# Altium integrated library Maxim Sensors.IntLib: 1171 symbols (part 16 of 61)
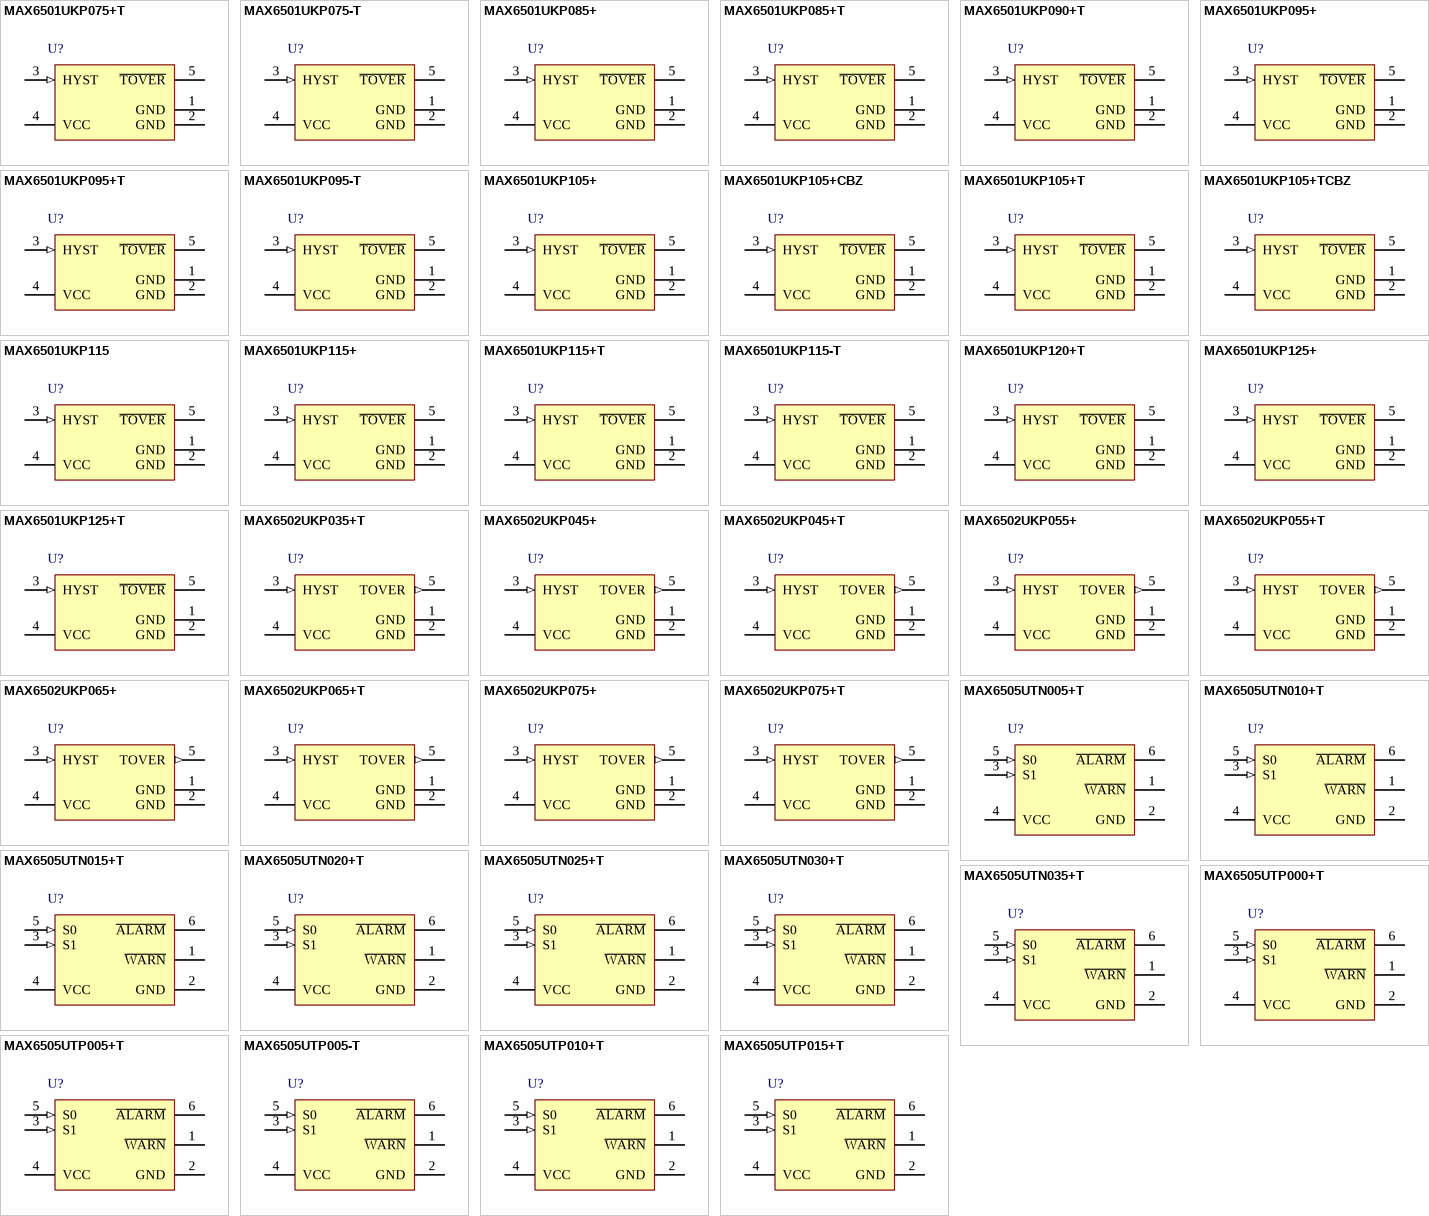
[diagram p48: symbols MAX6501UKP075+T to MAX6505UTP015+T]

## MAX6501UKP090+T
designator U?
Low-Cost, 2.7 to 5.5 V, Micropower Open-Drain Temperature Switch with Hot Trip Threshold, -55 to 125 degC, 5-Pin SOT23 (U5+2), Pb-Free, Tape and Reel; Generic Part Number: MAX6501; PartNumber: MAX6501UKP090+T; Functions: Temperature Switch/Temperature Comparator; Interface: Logic; DatasheetVersion: Rev. 6; PackageVersion: Rev. G, 04/2011; PackageReference: U5+2; PackageDescription: 5-Pin Small-Outline Transistor Package, Body 1.625 x 2.9 mm, Pitch 0.95 mm; Supplier 1: Digi-Key; Supplier Part Number 1: MAX6501UKP090+T-ND; Supplier 2: Mouser; Supplier Part Number 2: 700-MAX6501UKP090T; Packing: Tape and Reel; Mounting Technology: Surface Mount; Code_JEDEC: MO178; ComponentLink1Description: Manufacturer URL; ComponentLink1URL: http://www.maximintegrated.com/; ComponentLink2Description: Datasheet; ComponentLink2URL: http://datasheets.maximintegrated.com/en/ds/MAX6501; ComponentLink3Description: Package Specification; ComponentLink3URL: http://pdfserv.maximintegrated.com/package_dwgs/21-0057.PDF
footprint MAXM-U5+2_N (SOT23, 5-Leads, Body 2.9x1.625mm, Pitch 0.95mm, IPC Medium Density)
footprint MAXM-U5+2_L (SOT23, 5-Leads, Body 2.9x1.625mm, Pitch 0.95mm, IPC High Density)
footprint MAXM-U5+2_M (SOT23, 5-Leads, Body 2.9x1.625mm, Pitch 0.95mm, IPC Low Density)
pins: 1 GND (power) "Ground. Not internally connected. Connect both ground pins together close to the chip. Pin 2 provides the lowest thermal resistance to the die.", 2 GND (power) "Ground. Not internally connected. Connect both ground pins together close to the chip. Pin 2 provides the lowest thermal resistance to the die.", 3 HYST (in) "Hysteresis Input. Connect HYST to GND for 2degreesC hysteresis, or connect to VCC for 10 degreesC hysteresis.", 4 VCC (power) "Supply Input (+2.7V to +5.5V)", 5 ~{TOVER} (oc) "Open-Drain, Active-Low Output. T\O\V\E\R\ goes low when the die temperature exceeds the factory-programmed temperature threshold. Connect to a 100k ohm pullup resistor. May be pulled up to a voltage higher than VCC."

## MAX6501UKP095+
designator U?
Low-Cost, 2.7 to 5.5 V, Micropower Open-Drain Temperature Switch with Hot Trip Threshold, -55 to 125 degC, 5-Pin SOT23 (U5+2), Pb-Free; Generic Part Number: MAX6501; PartNumber: MAX6501UKP095+; Functions: Temperature Switch/Temperature Comparator; Interface: Logic; DatasheetVersion: Rev. 6; PackageVersion: Rev. G, 04/2011; PackageReference: U5+2; PackageDescription: 5-Pin Small-Outline Transistor Package, Body 1.625 x 2.9 mm, Pitch 0.95 mm; Supplier 1: Mouser; Supplier Part Number 1: N/A; Mounting Technology: Surface Mount; Code_JEDEC: MO178; ComponentLink1Description: Manufacturer URL; ComponentLink1URL: http://www.maximintegrated.com/; ComponentLink2Description: Datasheet; ComponentLink2URL: http://datasheets.maximintegrated.com/en/ds/MAX6501; ComponentLink3Description: Package Specification; ComponentLink3URL: http://pdfserv.maximintegrated.com/package_dwgs/21-0057.PDF
footprint MAXM-U5+2_N (SOT23, 5-Leads, Body 2.9x1.625mm, Pitch 0.95mm, IPC Medium Density)
footprint MAXM-U5+2_L (SOT23, 5-Leads, Body 2.9x1.625mm, Pitch 0.95mm, IPC High Density)
footprint MAXM-U5+2_M (SOT23, 5-Leads, Body 2.9x1.625mm, Pitch 0.95mm, IPC Low Density)
pins: 1 GND (power) "Ground. Not internally connected. Connect both ground pins together close to the chip. Pin 2 provides the lowest thermal resistance to the die.", 2 GND (power) "Ground. Not internally connected. Connect both ground pins together close to the chip. Pin 2 provides the lowest thermal resistance to the die.", 3 HYST (in) "Hysteresis Input. Connect HYST to GND for 2degreesC hysteresis, or connect to VCC for 10 degreesC hysteresis.", 4 VCC (power) "Supply Input (+2.7V to +5.5V)", 5 ~{TOVER} (oc) "Open-Drain, Active-Low Output. T\O\V\E\R\ goes low when the die temperature exceeds the factory-programmed temperature threshold. Connect to a 100k ohm pullup resistor. May be pulled up to a voltage higher than VCC."

## MAX6501UKP095+T
designator U?
Low-Cost, 2.7 to 5.5 V, Micropower Open-Drain Temperature Switch with Hot Trip Threshold, -55 to 125 degC, 5-Pin SOT23 (U5+2), Pb-Free, Tape and Reel; Generic Part Number: MAX6501; PartNumber: MAX6501UKP095+T; Functions: Temperature Switch/Temperature Comparator; Interface: Logic; DatasheetVersion: Rev. 6; PackageVersion: Rev. G, 04/2011; PackageReference: U5+2; PackageDescription: 5-Pin Small-Outline Transistor Package, Body 1.625 x 2.9 mm, Pitch 0.95 mm; Supplier 1: Digi-Key; Supplier Part Number 1: MAX6501UKP095+TTR-ND; Supplier 2: Digi-Key; Supplier Part Number 2: MAX6501UKP095+TCT-ND; Supplier 3: Digi-Key; Supplier Part Number 3: MAX6501UKP095+TDKR-ND; Supplier 4: Mouser; Supplier Part Number 4: 700-MAX6501UKP095T; Packing: Tape and Reel; Mounting Technology: Surface Mount; Code_JEDEC: MO178; ComponentLink1Description: Manufacturer URL; ComponentLink1URL: http://www.maximintegrated.com/; ComponentLink2Description: Datasheet; ComponentLink2URL: http://datasheets.maximintegrated.com/en/ds/MAX6501; ComponentLink3Description: Package Specification; ComponentLink3URL: http://pdfserv.maximintegrated.com/package_dwgs/21-0057.PDF
footprint MAXM-U5+2_N (SOT23, 5-Leads, Body 2.9x1.625mm, Pitch 0.95mm, IPC Medium Density)
footprint MAXM-U5+2_L (SOT23, 5-Leads, Body 2.9x1.625mm, Pitch 0.95mm, IPC High Density)
footprint MAXM-U5+2_M (SOT23, 5-Leads, Body 2.9x1.625mm, Pitch 0.95mm, IPC Low Density)
pins: 1 GND (power) "Ground. Not internally connected. Connect both ground pins together close to the chip. Pin 2 provides the lowest thermal resistance to the die.", 2 GND (power) "Ground. Not internally connected. Connect both ground pins together close to the chip. Pin 2 provides the lowest thermal resistance to the die.", 3 HYST (in) "Hysteresis Input. Connect HYST to GND for 2degreesC hysteresis, or connect to VCC for 10 degreesC hysteresis.", 4 VCC (power) "Supply Input (+2.7V to +5.5V)", 5 ~{TOVER} (oc) "Open-Drain, Active-Low Output. T\O\V\E\R\ goes low when the die temperature exceeds the factory-programmed temperature threshold. Connect to a 100k ohm pullup resistor. May be pulled up to a voltage higher than VCC."

## MAX6501UKP095-T
designator U?
Low-Cost, 2.7 to 5.5 V, Micropower Open-Drain Temperature Switch with Hot Trip Threshold, -55 to 125 degC, 5-Pin SOT23 (U5-2), Tape and Reel; Generic Part Number: MAX6501; PartNumber: MAX6501UKP095-T; Functions: Temperature Switch/Temperature Comparator; Interface: Logic; DatasheetVersion: Rev. 6; PackageVersion: Rev. G, 04/2011; PackageReference: U5-2; PackageDescription: 5-Pin Small-Outline Transistor Package, Body 1.625 x 2.9 mm, Pitch 0.95 mm; Supplier 1: Mouser; Supplier Part Number 1: N/A; Packing: Tape and Reel; Mounting Technology: Surface Mount; Code_JEDEC: MO-178; ComponentLink1Description: Manufacturer URL; ComponentLink1URL: http://www.maximintegrated.com/; ComponentLink2Description: Datasheet; ComponentLink2URL: http://datasheets.maximintegrated.com/en/ds/MAX6501; ComponentLink3Description: Package Specification; ComponentLink3URL: http://pdfserv.maximintegrated.com/package_dwgs/21-0057.PDF
footprint MAXM-U5-2_N (SOT23, 5-Leads, Body 2.9x1.625mm, Pitch 0.95mm, IPC Medium Density)
footprint MAXM-U5-2_L (SOT23, 5-Leads, Body 2.9x1.625mm, Pitch 0.95mm, IPC High Density)
footprint MAXM-U5-2_M (SOT23, 5-Leads, Body 2.9x1.625mm, Pitch 0.95mm, IPC Low Density)
pins: 1 GND (power) "Ground. Not internally connected. Connect both ground pins together close to the chip. Pin 2 provides the lowest thermal resistance to the die.", 2 GND (power) "Ground. Not internally connected. Connect both ground pins together close to the chip. Pin 2 provides the lowest thermal resistance to the die.", 3 HYST (in) "Hysteresis Input. Connect HYST to GND for 2degreesC hysteresis, or connect to VCC for 10 degreesC hysteresis.", 4 VCC (power) "Supply Input (+2.7V to +5.5V)", 5 ~{TOVER} (oc) "Open-Drain, Active-Low Output. T\O\V\E\R\ goes low when the die temperature exceeds the factory-programmed temperature threshold. Connect to a 100k ohm pullup resistor. May be pulled up to a voltage higher than VCC."

## MAX6501UKP105+
designator U?
Low-Cost, 2.7 to 5.5 V, Micropower Open-Drain Temperature Switch with Hot Trip Threshold, -55 to 125 degC, 5-Pin SOT23 (U5+2), Pb-Free; Generic Part Number: MAX6501; PartNumber: MAX6501UKP105+; Functions: Temperature Switch/Temperature Comparator; Interface: Logic; DatasheetVersion: Rev. 6; PackageVersion: Rev. G, 04/2011; PackageReference: U5+2; PackageDescription: 5-Pin Small-Outline Transistor Package, Body 1.625 x 2.9 mm, Pitch 0.95 mm; Supplier 1: Mouser; Supplier Part Number 1: N/A; Mounting Technology: Surface Mount; Code_JEDEC: MO178; ComponentLink1Description: Manufacturer URL; ComponentLink1URL: http://www.maximintegrated.com/; ComponentLink2Description: Datasheet; ComponentLink2URL: http://datasheets.maximintegrated.com/en/ds/MAX6501; ComponentLink3Description: Package Specification; ComponentLink3URL: http://pdfserv.maximintegrated.com/package_dwgs/21-0057.PDF
footprint MAXM-U5+2_N (SOT23, 5-Leads, Body 2.9x1.625mm, Pitch 0.95mm, IPC Medium Density)
footprint MAXM-U5+2_L (SOT23, 5-Leads, Body 2.9x1.625mm, Pitch 0.95mm, IPC High Density)
footprint MAXM-U5+2_M (SOT23, 5-Leads, Body 2.9x1.625mm, Pitch 0.95mm, IPC Low Density)
pins: 1 GND (power) "Ground. Not internally connected. Connect both ground pins together close to the chip. Pin 2 provides the lowest thermal resistance to the die.", 2 GND (power) "Ground. Not internally connected. Connect both ground pins together close to the chip. Pin 2 provides the lowest thermal resistance to the die.", 3 HYST (in) "Hysteresis Input. Connect HYST to GND for 2degreesC hysteresis, or connect to VCC for 10 degreesC hysteresis.", 4 VCC (power) "Supply Input (+2.7V to +5.5V)", 5 ~{TOVER} (oc) "Open-Drain, Active-Low Output. T\O\V\E\R\ goes low when the die temperature exceeds the factory-programmed temperature threshold. Connect to a 100k ohm pullup resistor. May be pulled up to a voltage higher than VCC."

## MAX6501UKP105+CBZ
designator U?
Low-Cost, 2.7 to 5.5 V, Micropower Open-Drain Temperature Switch with Hot Trip Threshold, -55 to 125 degC, 5-Pin SOT23 (U5+2), Pb-Free; Generic Part Number: MAX6501; PartNumber: MAX6501UKP105+CBZ; Functions: Temperature Switch/Temperature Comparator; Interface: Logic; DatasheetVersion: Rev. 6; PackageVersion: Rev. G, 04/2011; PackageReference: U5+2; PackageDescription: 5-Pin Small-Outline Transistor Package, Body 1.625 x 2.9 mm, Pitch 0.95 mm; Supplier 1: Mouser; Supplier Part Number 1: N/A; Mounting Technology: Surface Mount; Code_JEDEC: MO178; ComponentLink1Description: Manufacturer URL; ComponentLink1URL: http://www.maximintegrated.com/; ComponentLink2Description: Datasheet; ComponentLink2URL: http://datasheets.maximintegrated.com/en/ds/MAX6501; ComponentLink3Description: Package Specification; ComponentLink3URL: http://pdfserv.maximintegrated.com/package_dwgs/21-0057.PDF
footprint MAXM-U5+2_N (SOT23, 5-Leads, Body 2.9x1.625mm, Pitch 0.95mm, IPC Medium Density)
footprint MAXM-U5+2_L (SOT23, 5-Leads, Body 2.9x1.625mm, Pitch 0.95mm, IPC High Density)
footprint MAXM-U5+2_M (SOT23, 5-Leads, Body 2.9x1.625mm, Pitch 0.95mm, IPC Low Density)
pins: 1 GND (power) "Ground. Not internally connected. Connect both ground pins together close to the chip. Pin 2 provides the lowest thermal resistance to the die.", 2 GND (power) "Ground. Not internally connected. Connect both ground pins together close to the chip. Pin 2 provides the lowest thermal resistance to the die.", 3 HYST (in) "Hysteresis Input. Connect HYST to GND for 2degreesC hysteresis, or connect to VCC for 10 degreesC hysteresis.", 4 VCC (power) "Supply Input (+2.7V to +5.5V)", 5 ~{TOVER} (oc) "Open-Drain, Active-Low Output. T\O\V\E\R\ goes low when the die temperature exceeds the factory-programmed temperature threshold. Connect to a 100k ohm pullup resistor. May be pulled up to a voltage higher than VCC."

## MAX6501UKP105+T
designator U?
Low-Cost, 2.7 to 5.5 V, Micropower Open-Drain Temperature Switch with Hot Trip Threshold, -55 to 125 degC, 5-Pin SOT23 (U5+2), Pb-Free, Tape and Reel; Generic Part Number: MAX6501; PartNumber: MAX6501UKP105+T; Functions: Temperature Switch/Temperature Comparator; Interface: Logic; DatasheetVersion: Rev. 6; PackageVersion: Rev. G, 04/2011; PackageReference: U5+2; PackageDescription: 5-Pin Small-Outline Transistor Package, Body 1.625 x 2.9 mm, Pitch 0.95 mm; Supplier 1: Digi-Key; Supplier Part Number 1: MAX6501UKP105+TTR-ND; Supplier 2: Digi-Key; Supplier Part Number 2: MAX6501UKP105+TCT-ND; Supplier 3: Digi-Key; Supplier Part Number 3: MAX6501UKP105+TDKR-ND; Supplier 4: Mouser; Supplier Part Number 4: 700-MAX6501UKP105T; Packing: Tape and Reel; Mounting Technology: Surface Mount; Code_JEDEC: MO178; ComponentLink1Description: Manufacturer URL; ComponentLink1URL: http://www.maximintegrated.com/; ComponentLink2Description: Datasheet; ComponentLink2URL: http://datasheets.maximintegrated.com/en/ds/MAX6501; ComponentLink3Description: Package Specification; ComponentLink3URL: http://pdfserv.maximintegrated.com/package_dwgs/21-0057.PDF
footprint MAXM-U5+2_N (SOT23, 5-Leads, Body 2.9x1.625mm, Pitch 0.95mm, IPC Medium Density)
footprint MAXM-U5+2_L (SOT23, 5-Leads, Body 2.9x1.625mm, Pitch 0.95mm, IPC High Density)
footprint MAXM-U5+2_M (SOT23, 5-Leads, Body 2.9x1.625mm, Pitch 0.95mm, IPC Low Density)
pins: 1 GND (power) "Ground. Not internally connected. Connect both ground pins together close to the chip. Pin 2 provides the lowest thermal resistance to the die.", 2 GND (power) "Ground. Not internally connected. Connect both ground pins together close to the chip. Pin 2 provides the lowest thermal resistance to the die.", 3 HYST (in) "Hysteresis Input. Connect HYST to GND for 2degreesC hysteresis, or connect to VCC for 10 degreesC hysteresis.", 4 VCC (power) "Supply Input (+2.7V to +5.5V)", 5 ~{TOVER} (oc) "Open-Drain, Active-Low Output. T\O\V\E\R\ goes low when the die temperature exceeds the factory-programmed temperature threshold. Connect to a 100k ohm pullup resistor. May be pulled up to a voltage higher than VCC."

## MAX6501UKP105+TCBZ
designator U?
Low-Cost, 2.7 to 5.5 V, Micropower Open-Drain Temperature Switch with Hot Trip Threshold, -55 to 125 degC, 5-Pin SOT23 (U5+2), Pb-Free, Tape and Reel; Generic Part Number: MAX6501; PartNumber: MAX6501UKP105+TCBZ; Functions: Temperature Switch/Temperature Comparator; Interface: Logic; DatasheetVersion: Rev. 6; PackageVersion: Rev. G, 04/2011; PackageReference: U5+2; PackageDescription: 5-Pin Small-Outline Transistor Package, Body 1.625 x 2.9 mm, Pitch 0.95 mm; Supplier 1: Mouser; Supplier Part Number 1: N/A; Packing: Tape and Reel; Mounting Technology: Surface Mount; Code_JEDEC: MO178; ComponentLink1Description: Manufacturer URL; ComponentLink1URL: http://www.maximintegrated.com/; ComponentLink2Description: Datasheet; ComponentLink2URL: http://datasheets.maximintegrated.com/en/ds/MAX6501; ComponentLink3Description: Package Specification; ComponentLink3URL: http://pdfserv.maximintegrated.com/package_dwgs/21-0057.PDF
footprint MAXM-U5+2_N (SOT23, 5-Leads, Body 2.9x1.625mm, Pitch 0.95mm, IPC Medium Density)
footprint MAXM-U5+2_L (SOT23, 5-Leads, Body 2.9x1.625mm, Pitch 0.95mm, IPC High Density)
footprint MAXM-U5+2_M (SOT23, 5-Leads, Body 2.9x1.625mm, Pitch 0.95mm, IPC Low Density)
pins: 1 GND (power) "Ground. Not internally connected. Connect both ground pins together close to the chip. Pin 2 provides the lowest thermal resistance to the die.", 2 GND (power) "Ground. Not internally connected. Connect both ground pins together close to the chip. Pin 2 provides the lowest thermal resistance to the die.", 3 HYST (in) "Hysteresis Input. Connect HYST to GND for 2degreesC hysteresis, or connect to VCC for 10 degreesC hysteresis.", 4 VCC (power) "Supply Input (+2.7V to +5.5V)", 5 ~{TOVER} (oc) "Open-Drain, Active-Low Output. T\O\V\E\R\ goes low when the die temperature exceeds the factory-programmed temperature threshold. Connect to a 100k ohm pullup resistor. May be pulled up to a voltage higher than VCC."

## MAX6501UKP115
designator U?
Low-Cost, 2.7 to 5.5 V, Micropower Open-Drain Temperature Switch with Hot Trip Threshold, -55 to 125 degC, 5-Pin SOT23 (U5-2); Generic Part Number: MAX6501; PartNumber: MAX6501UKP115; Functions: Temperature Switch/Temperature Comparator; Interface: Logic; DatasheetVersion: Rev. 6; PackageVersion: Rev. G, 04/2011; PackageReference: U5-2; PackageDescription: 5-Pin Small-Outline Transistor Package, Body 1.625 x 2.9 mm, Pitch 0.95 mm; Supplier 1: Mouser; Supplier Part Number 1: N/A; Mounting Technology: Surface Mount; Code_JEDEC: MO-178; ComponentLink1Description: Manufacturer URL; ComponentLink1URL: http://www.maximintegrated.com/; ComponentLink2Description: Datasheet; ComponentLink2URL: http://datasheets.maximintegrated.com/en/ds/MAX6501; ComponentLink3Description: Package Specification; ComponentLink3URL: http://pdfserv.maximintegrated.com/package_dwgs/21-0057.PDF
footprint MAXM-U5-2_N (SOT23, 5-Leads, Body 2.9x1.625mm, Pitch 0.95mm, IPC Medium Density)
footprint MAXM-U5-2_L (SOT23, 5-Leads, Body 2.9x1.625mm, Pitch 0.95mm, IPC High Density)
footprint MAXM-U5-2_M (SOT23, 5-Leads, Body 2.9x1.625mm, Pitch 0.95mm, IPC Low Density)
pins: 1 GND (power) "Ground. Not internally connected. Connect both ground pins together close to the chip. Pin 2 provides the lowest thermal resistance to the die.", 2 GND (power) "Ground. Not internally connected. Connect both ground pins together close to the chip. Pin 2 provides the lowest thermal resistance to the die.", 3 HYST (in) "Hysteresis Input. Connect HYST to GND for 2degreesC hysteresis, or connect to VCC for 10 degreesC hysteresis.", 4 VCC (power) "Supply Input (+2.7V to +5.5V)", 5 ~{TOVER} (oc) "Open-Drain, Active-Low Output. T\O\V\E\R\ goes low when the die temperature exceeds the factory-programmed temperature threshold. Connect to a 100k ohm pullup resistor. May be pulled up to a voltage higher than VCC."

## MAX6501UKP115+
designator U?
Low-Cost, 2.7 to 5.5 V, Micropower Open-Drain Temperature Switch with Hot Trip Threshold, -55 to 125 degC, 5-Pin SOT23 (U5+2), Pb-Free; Generic Part Number: MAX6501; PartNumber: MAX6501UKP115+; Functions: Temperature Switch/Temperature Comparator; Interface: Logic; DatasheetVersion: Rev. 6; PackageVersion: Rev. G, 04/2011; PackageReference: U5+2; PackageDescription: 5-Pin Small-Outline Transistor Package, Body 1.625 x 2.9 mm, Pitch 0.95 mm; Supplier 1: Mouser; Supplier Part Number 1: N/A; Mounting Technology: Surface Mount; Code_JEDEC: MO178; ComponentLink1Description: Manufacturer URL; ComponentLink1URL: http://www.maximintegrated.com/; ComponentLink2Description: Datasheet; ComponentLink2URL: http://datasheets.maximintegrated.com/en/ds/MAX6501; ComponentLink3Description: Package Specification; ComponentLink3URL: http://pdfserv.maximintegrated.com/package_dwgs/21-0057.PDF
footprint MAXM-U5+2_N (SOT23, 5-Leads, Body 2.9x1.625mm, Pitch 0.95mm, IPC Medium Density)
footprint MAXM-U5+2_L (SOT23, 5-Leads, Body 2.9x1.625mm, Pitch 0.95mm, IPC High Density)
footprint MAXM-U5+2_M (SOT23, 5-Leads, Body 2.9x1.625mm, Pitch 0.95mm, IPC Low Density)
pins: 1 GND (power) "Ground. Not internally connected. Connect both ground pins together close to the chip. Pin 2 provides the lowest thermal resistance to the die.", 2 GND (power) "Ground. Not internally connected. Connect both ground pins together close to the chip. Pin 2 provides the lowest thermal resistance to the die.", 3 HYST (in) "Hysteresis Input. Connect HYST to GND for 2degreesC hysteresis, or connect to VCC for 10 degreesC hysteresis.", 4 VCC (power) "Supply Input (+2.7V to +5.5V)", 5 ~{TOVER} (oc) "Open-Drain, Active-Low Output. T\O\V\E\R\ goes low when the die temperature exceeds the factory-programmed temperature threshold. Connect to a 100k ohm pullup resistor. May be pulled up to a voltage higher than VCC."

## MAX6501UKP115+T
designator U?
Low-Cost, 2.7 to 5.5 V, Micropower Open-Drain Temperature Switch with Hot Trip Threshold, -55 to 125 degC, 5-Pin SOT23 (U5+2), Pb-Free, Tape and Reel; Generic Part Number: MAX6501; PartNumber: MAX6501UKP115+T; Functions: Temperature Switch/Temperature Comparator; Interface: Logic; DatasheetVersion: Rev. 6; PackageVersion: Rev. G, 04/2011; PackageReference: U5+2; PackageDescription: 5-Pin Small-Outline Transistor Package, Body 1.625 x 2.9 mm, Pitch 0.95 mm; Supplier 1: Digi-Key; Supplier Part Number 1: MAX6501UKP115+TTR-ND; Supplier 2: Digi-Key; Supplier Part Number 2: MAX6501UKP115+TCT-ND; Supplier 3: Digi-Key; Supplier Part Number 3: MAX6501UKP115+TDKR-ND; Supplier 4: Mouser; Supplier Part Number 4: 700-MAX6501UKP115T; Packing: Tape and Reel; Mounting Technology: Surface Mount; Code_JEDEC: MO178; ComponentLink1Description: Manufacturer URL; ComponentLink1URL: http://www.maximintegrated.com/; ComponentLink2Description: Datasheet; ComponentLink2URL: http://datasheets.maximintegrated.com/en/ds/MAX6501; ComponentLink3Description: Package Specification; ComponentLink3URL: http://pdfserv.maximintegrated.com/package_dwgs/21-0057.PDF
footprint MAXM-U5+2_N (SOT23, 5-Leads, Body 2.9x1.625mm, Pitch 0.95mm, IPC Medium Density)
footprint MAXM-U5+2_L (SOT23, 5-Leads, Body 2.9x1.625mm, Pitch 0.95mm, IPC High Density)
footprint MAXM-U5+2_M (SOT23, 5-Leads, Body 2.9x1.625mm, Pitch 0.95mm, IPC Low Density)
pins: 1 GND (power) "Ground. Not internally connected. Connect both ground pins together close to the chip. Pin 2 provides the lowest thermal resistance to the die.", 2 GND (power) "Ground. Not internally connected. Connect both ground pins together close to the chip. Pin 2 provides the lowest thermal resistance to the die.", 3 HYST (in) "Hysteresis Input. Connect HYST to GND for 2degreesC hysteresis, or connect to VCC for 10 degreesC hysteresis.", 4 VCC (power) "Supply Input (+2.7V to +5.5V)", 5 ~{TOVER} (oc) "Open-Drain, Active-Low Output. T\O\V\E\R\ goes low when the die temperature exceeds the factory-programmed temperature threshold. Connect to a 100k ohm pullup resistor. May be pulled up to a voltage higher than VCC."

## MAX6501UKP115-T
designator U?
Low-Cost, 2.7 to 5.5 V, Micropower Open-Drain Temperature Switch with Hot Trip Threshold, -55 to 125 degC, 5-Pin SOT23 (U5-2), Tape and Reel; Generic Part Number: MAX6501; PartNumber: MAX6501UKP115-T; Functions: Temperature Switch/Temperature Comparator; Interface: Logic; DatasheetVersion: Rev. 6; PackageVersion: Rev. G, 04/2011; PackageReference: U5-2; PackageDescription: 5-Pin Small-Outline Transistor Package, Body 1.625 x 2.9 mm, Pitch 0.95 mm; Supplier 1: Mouser; Supplier Part Number 1: N/A; Packing: Tape and Reel; Mounting Technology: Surface Mount; Code_JEDEC: MO-178; ComponentLink1Description: Manufacturer URL; ComponentLink1URL: http://www.maximintegrated.com/; ComponentLink2Description: Datasheet; ComponentLink2URL: http://datasheets.maximintegrated.com/en/ds/MAX6501; ComponentLink3Description: Package Specification; ComponentLink3URL: http://pdfserv.maximintegrated.com/package_dwgs/21-0057.PDF
footprint MAXM-U5-2_N (SOT23, 5-Leads, Body 2.9x1.625mm, Pitch 0.95mm, IPC Medium Density)
footprint MAXM-U5-2_L (SOT23, 5-Leads, Body 2.9x1.625mm, Pitch 0.95mm, IPC High Density)
footprint MAXM-U5-2_M (SOT23, 5-Leads, Body 2.9x1.625mm, Pitch 0.95mm, IPC Low Density)
pins: 1 GND (power) "Ground. Not internally connected. Connect both ground pins together close to the chip. Pin 2 provides the lowest thermal resistance to the die.", 2 GND (power) "Ground. Not internally connected. Connect both ground pins together close to the chip. Pin 2 provides the lowest thermal resistance to the die.", 3 HYST (in) "Hysteresis Input. Connect HYST to GND for 2degreesC hysteresis, or connect to VCC for 10 degreesC hysteresis.", 4 VCC (power) "Supply Input (+2.7V to +5.5V)", 5 ~{TOVER} (oc) "Open-Drain, Active-Low Output. T\O\V\E\R\ goes low when the die temperature exceeds the factory-programmed temperature threshold. Connect to a 100k ohm pullup resistor. May be pulled up to a voltage higher than VCC."

## MAX6501UKP120+T
designator U?
Low-Cost, 2.7 to 5.5 V, Micropower Open-Drain Temperature Switch with Hot Trip Threshold, -55 to 125 degC, 5-Pin SOT23 (U5+2), Pb-Free, Tape and Reel; Generic Part Number: MAX6501; PartNumber: MAX6501UKP120+T; Functions: Temperature Switch/Temperature Comparator; Interface: Logic; DatasheetVersion: Rev. 6; PackageVersion: Rev. G, 04/2011; PackageReference: U5+2; PackageDescription: 5-Pin Small-Outline Transistor Package, Body 1.625 x 2.9 mm, Pitch 0.95 mm; Supplier 1: Digi-Key; Supplier Part Number 1: MAX6501UKP120+T-ND; Supplier 2: Mouser; Supplier Part Number 2: 700-MAX6501UKP120T; Packing: Tape and Reel; Mounting Technology: Surface Mount; Code_JEDEC: MO178; ComponentLink1Description: Manufacturer URL; ComponentLink1URL: http://www.maximintegrated.com/; ComponentLink2Description: Datasheet; ComponentLink2URL: http://datasheets.maximintegrated.com/en/ds/MAX6501; ComponentLink3Description: Package Specification; ComponentLink3URL: http://pdfserv.maximintegrated.com/package_dwgs/21-0057.PDF
footprint MAXM-U5+2_N (SOT23, 5-Leads, Body 2.9x1.625mm, Pitch 0.95mm, IPC Medium Density)
footprint MAXM-U5+2_L (SOT23, 5-Leads, Body 2.9x1.625mm, Pitch 0.95mm, IPC High Density)
footprint MAXM-U5+2_M (SOT23, 5-Leads, Body 2.9x1.625mm, Pitch 0.95mm, IPC Low Density)
pins: 1 GND (power) "Ground. Not internally connected. Connect both ground pins together close to the chip. Pin 2 provides the lowest thermal resistance to the die.", 2 GND (power) "Ground. Not internally connected. Connect both ground pins together close to the chip. Pin 2 provides the lowest thermal resistance to the die.", 3 HYST (in) "Hysteresis Input. Connect HYST to GND for 2degreesC hysteresis, or connect to VCC for 10 degreesC hysteresis.", 4 VCC (power) "Supply Input (+2.7V to +5.5V)", 5 ~{TOVER} (oc) "Open-Drain, Active-Low Output. T\O\V\E\R\ goes low when the die temperature exceeds the factory-programmed temperature threshold. Connect to a 100k ohm pullup resistor. May be pulled up to a voltage higher than VCC."

## MAX6501UKP125+
designator U?
Low-Cost, 2.7 to 5.5 V, Micropower Open-Drain Temperature Switch with Hot Trip Threshold, -55 to 125 degC, 5-Pin SOT23 (U5+2), Pb-Free; Generic Part Number: MAX6501; PartNumber: MAX6501UKP125+; Functions: Temperature Switch/Temperature Comparator; Interface: Logic; DatasheetVersion: Rev. 6; PackageVersion: Rev. G, 04/2011; PackageReference: U5+2; PackageDescription: 5-Pin Small-Outline Transistor Package, Body 1.625 x 2.9 mm, Pitch 0.95 mm; Supplier 1: Mouser; Supplier Part Number 1: N/A; Mounting Technology: Surface Mount; Code_JEDEC: MO178; ComponentLink1Description: Manufacturer URL; ComponentLink1URL: http://www.maximintegrated.com/; ComponentLink2Description: Datasheet; ComponentLink2URL: http://datasheets.maximintegrated.com/en/ds/MAX6501; ComponentLink3Description: Package Specification; ComponentLink3URL: http://pdfserv.maximintegrated.com/package_dwgs/21-0057.PDF
footprint MAXM-U5+2_N (SOT23, 5-Leads, Body 2.9x1.625mm, Pitch 0.95mm, IPC Medium Density)
footprint MAXM-U5+2_L (SOT23, 5-Leads, Body 2.9x1.625mm, Pitch 0.95mm, IPC High Density)
footprint MAXM-U5+2_M (SOT23, 5-Leads, Body 2.9x1.625mm, Pitch 0.95mm, IPC Low Density)
pins: 1 GND (power) "Ground. Not internally connected. Connect both ground pins together close to the chip. Pin 2 provides the lowest thermal resistance to the die.", 2 GND (power) "Ground. Not internally connected. Connect both ground pins together close to the chip. Pin 2 provides the lowest thermal resistance to the die.", 3 HYST (in) "Hysteresis Input. Connect HYST to GND for 2degreesC hysteresis, or connect to VCC for 10 degreesC hysteresis.", 4 VCC (power) "Supply Input (+2.7V to +5.5V)", 5 ~{TOVER} (oc) "Open-Drain, Active-Low Output. T\O\V\E\R\ goes low when the die temperature exceeds the factory-programmed temperature threshold. Connect to a 100k ohm pullup resistor. May be pulled up to a voltage higher than VCC."

## MAX6501UKP125+T
designator U?
Low-Cost, 2.7 to 5.5 V, Micropower Open-Drain Temperature Switch with Hot Trip Threshold, -55 to 125 degC, 5-Pin SOT23 (U5+2), Pb-Free, Tape and Reel; Generic Part Number: MAX6501; PartNumber: MAX6501UKP125+T; Functions: Temperature Switch/Temperature Comparator; Interface: Logic; DatasheetVersion: Rev. 6; PackageVersion: Rev. G, 04/2011; PackageReference: U5+2; PackageDescription: 5-Pin Small-Outline Transistor Package, Body 1.625 x 2.9 mm, Pitch 0.95 mm; Supplier 1: Digi-Key; Supplier Part Number 1: MAX6501UKP125+T-ND; Supplier 2: Mouser; Supplier Part Number 2: 700-MAX6501UKP125T; Packing: Tape and Reel; Mounting Technology: Surface Mount; Code_JEDEC: MO178; ComponentLink1Description: Manufacturer URL; ComponentLink1URL: http://www.maximintegrated.com/; ComponentLink2Description: Datasheet; ComponentLink2URL: http://datasheets.maximintegrated.com/en/ds/MAX6501; ComponentLink3Description: Package Specification; ComponentLink3URL: http://pdfserv.maximintegrated.com/package_dwgs/21-0057.PDF
footprint MAXM-U5+2_N (SOT23, 5-Leads, Body 2.9x1.625mm, Pitch 0.95mm, IPC Medium Density)
footprint MAXM-U5+2_L (SOT23, 5-Leads, Body 2.9x1.625mm, Pitch 0.95mm, IPC High Density)
footprint MAXM-U5+2_M (SOT23, 5-Leads, Body 2.9x1.625mm, Pitch 0.95mm, IPC Low Density)
pins: 1 GND (power) "Ground. Not internally connected. Connect both ground pins together close to the chip. Pin 2 provides the lowest thermal resistance to the die.", 2 GND (power) "Ground. Not internally connected. Connect both ground pins together close to the chip. Pin 2 provides the lowest thermal resistance to the die.", 3 HYST (in) "Hysteresis Input. Connect HYST to GND for 2degreesC hysteresis, or connect to VCC for 10 degreesC hysteresis.", 4 VCC (power) "Supply Input (+2.7V to +5.5V)", 5 ~{TOVER} (oc) "Open-Drain, Active-Low Output. T\O\V\E\R\ goes low when the die temperature exceeds the factory-programmed temperature threshold. Connect to a 100k ohm pullup resistor. May be pulled up to a voltage higher than VCC."

## MAX6502UKP035+T
designator U?
Low-Cost, 2.7 to 5.5 V, Micropower, Push / Pull Temperature Switch with Hot Trip Threshold, -55 to 125 degC, 5-Pin SOT23 (U5+2), Pb-Free, Tape and Reel; Generic Part Number: MAX6502; PartNumber: MAX6502UKP035+T; Functions: Temperature Switch/Temperature Comparator; Interface: Logic; DatasheetVersion: Rev. 6; PackageVersion: Rev. G, 04/2011; PackageReference: U5+2; PackageDescription: 5-Pin Small-Outline Transistor Package, Body 1.625 x 2.9 mm, Pitch 0.95 mm; Supplier 1: Digi-Key; Supplier Part Number 1: MAX6502UKP035+T-ND; Supplier 2: Mouser; Supplier Part Number 2: 700-MAX6502UKP035T; Packing: Tape and Reel; Mounting Technology: Surface Mount; Code_JEDEC: MO178; ComponentLink1Description: Manufacturer URL; ComponentLink1URL: http://www.maximintegrated.com/; ComponentLink2Description: Datasheet; ComponentLink2URL: http://datasheets.maximintegrated.com/en/ds/MAX6502; ComponentLink3Description: Package Specification; ComponentLink3URL: http://pdfserv.maximintegrated.com/package_dwgs/21-0057.PDF
footprint MAXM-U5+2_N (SOT23, 5-Leads, Body 2.9x1.625mm, Pitch 0.95mm, IPC Medium Density)
footprint MAXM-U5+2_L (SOT23, 5-Leads, Body 2.9x1.625mm, Pitch 0.95mm, IPC High Density)
footprint MAXM-U5+2_M (SOT23, 5-Leads, Body 2.9x1.625mm, Pitch 0.95mm, IPC Low Density)
pins: 1 GND (power) "Ground", 2 GND (power) "Ground", 3 HYST (in) "Hysteresis Input. Connect to VCC for 2degreesC of hysteresis or to GND for 10degreesC hysteresis.", 4 VCC (power) "Input Supply. Bypass to ground with a 0.1uF capacitor.", 5 TOVER (out) "Push-Pull Active-High Output (Hot Threshold). TOVER goes high when the die temperature exceeds the factory-programmed hot-temperature threshold."

## MAX6502UKP045+
designator U?
Low-Cost, 2.7 to 5.5 V, Micropower, Push / Pull Temperature Switch with Hot Trip Threshold, -55 to 125 degC, 5-Pin SOT23 (U5+2), Pb-Free; Generic Part Number: MAX6502; PartNumber: MAX6502UKP045+; Functions: Temperature Switch/Temperature Comparator; Interface: Logic; DatasheetVersion: Rev. 6; PackageVersion: Rev. G, 04/2011; PackageReference: U5+2; PackageDescription: 5-Pin Small-Outline Transistor Package, Body 1.625 x 2.9 mm, Pitch 0.95 mm; Supplier 1: Mouser; Supplier Part Number 1: N/A; Mounting Technology: Surface Mount; Code_JEDEC: MO178; ComponentLink1Description: Manufacturer URL; ComponentLink1URL: http://www.maximintegrated.com/; ComponentLink2Description: Datasheet; ComponentLink2URL: http://datasheets.maximintegrated.com/en/ds/MAX6502; ComponentLink3Description: Package Specification; ComponentLink3URL: http://pdfserv.maximintegrated.com/package_dwgs/21-0057.PDF
footprint MAXM-U5+2_N (SOT23, 5-Leads, Body 2.9x1.625mm, Pitch 0.95mm, IPC Medium Density)
footprint MAXM-U5+2_L (SOT23, 5-Leads, Body 2.9x1.625mm, Pitch 0.95mm, IPC High Density)
footprint MAXM-U5+2_M (SOT23, 5-Leads, Body 2.9x1.625mm, Pitch 0.95mm, IPC Low Density)
pins: 1 GND (power) "Ground", 2 GND (power) "Ground", 3 HYST (in) "Hysteresis Input. Connect to VCC for 2degreesC of hysteresis or to GND for 10degreesC hysteresis.", 4 VCC (power) "Input Supply. Bypass to ground with a 0.1uF capacitor.", 5 TOVER (out) "Push-Pull Active-High Output (Hot Threshold). TOVER goes high when the die temperature exceeds the factory-programmed hot-temperature threshold."

## MAX6502UKP045+T
designator U?
Low-Cost, 2.7 to 5.5 V, Micropower, Push / Pull Temperature Switch with Hot Trip Threshold, -55 to 125 degC, 5-Pin SOT23 (U5+2), Pb-Free, Tape and Reel; Generic Part Number: MAX6502; PartNumber: MAX6502UKP045+T; Functions: Temperature Switch/Temperature Comparator; Interface: Logic; DatasheetVersion: Rev. 6; PackageVersion: Rev. G, 04/2011; PackageReference: U5+2; PackageDescription: 5-Pin Small-Outline Transistor Package, Body 1.625 x 2.9 mm, Pitch 0.95 mm; Supplier 1: Digi-Key; Supplier Part Number 1: MAX6502UKP045+T-ND; Supplier 2: Mouser; Supplier Part Number 2: 700-MAX6502UKP045T; Packing: Tape and Reel; Mounting Technology: Surface Mount; Code_JEDEC: MO178; ComponentLink1Description: Manufacturer URL; ComponentLink1URL: http://www.maximintegrated.com/; ComponentLink2Description: Datasheet; ComponentLink2URL: http://datasheets.maximintegrated.com/en/ds/MAX6502; ComponentLink3Description: Package Specification; ComponentLink3URL: http://pdfserv.maximintegrated.com/package_dwgs/21-0057.PDF
footprint MAXM-U5+2_N (SOT23, 5-Leads, Body 2.9x1.625mm, Pitch 0.95mm, IPC Medium Density)
footprint MAXM-U5+2_L (SOT23, 5-Leads, Body 2.9x1.625mm, Pitch 0.95mm, IPC High Density)
footprint MAXM-U5+2_M (SOT23, 5-Leads, Body 2.9x1.625mm, Pitch 0.95mm, IPC Low Density)
pins: 1 GND (power) "Ground", 2 GND (power) "Ground", 3 HYST (in) "Hysteresis Input. Connect to VCC for 2degreesC of hysteresis or to GND for 10degreesC hysteresis.", 4 VCC (power) "Input Supply. Bypass to ground with a 0.1uF capacitor.", 5 TOVER (out) "Push-Pull Active-High Output (Hot Threshold). TOVER goes high when the die temperature exceeds the factory-programmed hot-temperature threshold."

## MAX6502UKP055+
designator U?
Low-Cost, 2.7 to 5.5 V, Micropower, Push / Pull Temperature Switch with Hot Trip Threshold, -55 to 125 degC, 5-Pin SOT23 (U5+2), Pb-Free; Generic Part Number: MAX6502; PartNumber: MAX6502UKP055+; Functions: Temperature Switch/Temperature Comparator; Interface: Logic; DatasheetVersion: Rev. 6; PackageVersion: Rev. G, 04/2011; PackageReference: U5+2; PackageDescription: 5-Pin Small-Outline Transistor Package, Body 1.625 x 2.9 mm, Pitch 0.95 mm; Supplier 1: Mouser; Supplier Part Number 1: N/A; Mounting Technology: Surface Mount; Code_JEDEC: MO178; ComponentLink1Description: Manufacturer URL; ComponentLink1URL: http://www.maximintegrated.com/; ComponentLink2Description: Datasheet; ComponentLink2URL: http://datasheets.maximintegrated.com/en/ds/MAX6502; ComponentLink3Description: Package Specification; ComponentLink3URL: http://pdfserv.maximintegrated.com/package_dwgs/21-0057.PDF
footprint MAXM-U5+2_N (SOT23, 5-Leads, Body 2.9x1.625mm, Pitch 0.95mm, IPC Medium Density)
footprint MAXM-U5+2_L (SOT23, 5-Leads, Body 2.9x1.625mm, Pitch 0.95mm, IPC High Density)
footprint MAXM-U5+2_M (SOT23, 5-Leads, Body 2.9x1.625mm, Pitch 0.95mm, IPC Low Density)
pins: 1 GND (power) "Ground", 2 GND (power) "Ground", 3 HYST (in) "Hysteresis Input. Connect to VCC for 2degreesC of hysteresis or to GND for 10degreesC hysteresis.", 4 VCC (power) "Input Supply. Bypass to ground with a 0.1uF capacitor.", 5 TOVER (out) "Push-Pull Active-High Output (Hot Threshold). TOVER goes high when the die temperature exceeds the factory-programmed hot-temperature threshold."

## MAX6502UKP055+T
designator U?
Low-Cost, 2.7 to 5.5 V, Micropower, Push / Pull Temperature Switch with Hot Trip Threshold, -55 to 125 degC, 5-Pin SOT23 (U5+2), Pb-Free, Tape and Reel; Generic Part Number: MAX6502; PartNumber: MAX6502UKP055+T; Functions: Temperature Switch/Temperature Comparator; Interface: Logic; DatasheetVersion: Rev. 6; PackageVersion: Rev. G, 04/2011; PackageReference: U5+2; PackageDescription: 5-Pin Small-Outline Transistor Package, Body 1.625 x 2.9 mm, Pitch 0.95 mm; Supplier 1: Digi-Key; Supplier Part Number 1: MAX6502UKP055+T-ND; Supplier 2: Mouser; Supplier Part Number 2: 700-MAX6502UKP055T; Packing: Tape and Reel; Mounting Technology: Surface Mount; Code_JEDEC: MO178; ComponentLink1Description: Manufacturer URL; ComponentLink1URL: http://www.maximintegrated.com/; ComponentLink2Description: Datasheet; ComponentLink2URL: http://datasheets.maximintegrated.com/en/ds/MAX6502; ComponentLink3Description: Package Specification; ComponentLink3URL: http://pdfserv.maximintegrated.com/package_dwgs/21-0057.PDF
footprint MAXM-U5+2_N (SOT23, 5-Leads, Body 2.9x1.625mm, Pitch 0.95mm, IPC Medium Density)
footprint MAXM-U5+2_L (SOT23, 5-Leads, Body 2.9x1.625mm, Pitch 0.95mm, IPC High Density)
footprint MAXM-U5+2_M (SOT23, 5-Leads, Body 2.9x1.625mm, Pitch 0.95mm, IPC Low Density)
pins: 1 GND (power) "Ground", 2 GND (power) "Ground", 3 HYST (in) "Hysteresis Input. Connect to VCC for 2degreesC of hysteresis or to GND for 10degreesC hysteresis.", 4 VCC (power) "Input Supply. Bypass to ground with a 0.1uF capacitor.", 5 TOVER (out) "Push-Pull Active-High Output (Hot Threshold). TOVER goes high when the die temperature exceeds the factory-programmed hot-temperature threshold."

## MAX6502UKP065+
designator U?
Low-Cost, 2.7 to 5.5 V, Micropower, Push / Pull Temperature Switch with Hot Trip Threshold, -55 to 125 degC, 5-Pin SOT23 (U5+2), Pb-Free; Generic Part Number: MAX6502; PartNumber: MAX6502UKP065+; Functions: Temperature Switch/Temperature Comparator; Interface: Logic; DatasheetVersion: Rev. 6; PackageVersion: Rev. G, 04/2011; PackageReference: U5+2; PackageDescription: 5-Pin Small-Outline Transistor Package, Body 1.625 x 2.9 mm, Pitch 0.95 mm; Supplier 1: Mouser; Supplier Part Number 1: N/A; Mounting Technology: Surface Mount; Code_JEDEC: MO178; ComponentLink1Description: Manufacturer URL; ComponentLink1URL: http://www.maximintegrated.com/; ComponentLink2Description: Datasheet; ComponentLink2URL: http://datasheets.maximintegrated.com/en/ds/MAX6502; ComponentLink3Description: Package Specification; ComponentLink3URL: http://pdfserv.maximintegrated.com/package_dwgs/21-0057.PDF
footprint MAXM-U5+2_N (SOT23, 5-Leads, Body 2.9x1.625mm, Pitch 0.95mm, IPC Medium Density)
footprint MAXM-U5+2_L (SOT23, 5-Leads, Body 2.9x1.625mm, Pitch 0.95mm, IPC High Density)
footprint MAXM-U5+2_M (SOT23, 5-Leads, Body 2.9x1.625mm, Pitch 0.95mm, IPC Low Density)
pins: 1 GND (power) "Ground", 2 GND (power) "Ground", 3 HYST (in) "Hysteresis Input. Connect to VCC for 2degreesC of hysteresis or to GND for 10degreesC hysteresis.", 4 VCC (power) "Input Supply. Bypass to ground with a 0.1uF capacitor.", 5 TOVER (out) "Push-Pull Active-High Output (Hot Threshold). TOVER goes high when the die temperature exceeds the factory-programmed hot-temperature threshold."

## MAX6502UKP065+T
designator U?
Low-Cost, 2.7 to 5.5 V, Micropower, Push / Pull Temperature Switch with Hot Trip Threshold, -55 to 125 degC, 5-Pin SOT23 (U5+2), Pb-Free, Tape and Reel; Generic Part Number: MAX6502; PartNumber: MAX6502UKP065+T; Functions: Temperature Switch/Temperature Comparator; Interface: Logic; DatasheetVersion: Rev. 6; PackageVersion: Rev. G, 04/2011; PackageReference: U5+2; PackageDescription: 5-Pin Small-Outline Transistor Package, Body 1.625 x 2.9 mm, Pitch 0.95 mm; Supplier 1: Digi-Key; Supplier Part Number 1: MAX6502UKP065+T-ND; Supplier 2: Mouser; Supplier Part Number 2: 700-MAX6502UKP065T; Packing: Tape and Reel; Mounting Technology: Surface Mount; Code_JEDEC: MO178; ComponentLink1Description: Manufacturer URL; ComponentLink1URL: http://www.maximintegrated.com/; ComponentLink2Description: Datasheet; ComponentLink2URL: http://datasheets.maximintegrated.com/en/ds/MAX6502; ComponentLink3Description: Package Specification; ComponentLink3URL: http://pdfserv.maximintegrated.com/package_dwgs/21-0057.PDF
footprint MAXM-U5+2_N (SOT23, 5-Leads, Body 2.9x1.625mm, Pitch 0.95mm, IPC Medium Density)
footprint MAXM-U5+2_L (SOT23, 5-Leads, Body 2.9x1.625mm, Pitch 0.95mm, IPC High Density)
footprint MAXM-U5+2_M (SOT23, 5-Leads, Body 2.9x1.625mm, Pitch 0.95mm, IPC Low Density)
pins: 1 GND (power) "Ground", 2 GND (power) "Ground", 3 HYST (in) "Hysteresis Input. Connect to VCC for 2degreesC of hysteresis or to GND for 10degreesC hysteresis.", 4 VCC (power) "Input Supply. Bypass to ground with a 0.1uF capacitor.", 5 TOVER (out) "Push-Pull Active-High Output (Hot Threshold). TOVER goes high when the die temperature exceeds the factory-programmed hot-temperature threshold."

## MAX6502UKP075+
designator U?
Low-Cost, 2.7 to 5.5 V, Micropower, Push / Pull Temperature Switch with Hot Trip Threshold, -55 to 125 degC, 5-Pin SOT23 (U5+2), Pb-Free; Generic Part Number: MAX6502; PartNumber: MAX6502UKP075+; Functions: Temperature Switch/Temperature Comparator; Interface: Logic; DatasheetVersion: Rev. 6; PackageVersion: Rev. G, 04/2011; PackageReference: U5+2; PackageDescription: 5-Pin Small-Outline Transistor Package, Body 1.625 x 2.9 mm, Pitch 0.95 mm; Supplier 1: Mouser; Supplier Part Number 1: N/A; Mounting Technology: Surface Mount; Code_JEDEC: MO178; ComponentLink1Description: Manufacturer URL; ComponentLink1URL: http://www.maximintegrated.com/; ComponentLink2Description: Datasheet; ComponentLink2URL: http://datasheets.maximintegrated.com/en/ds/MAX6502; ComponentLink3Description: Package Specification; ComponentLink3URL: http://pdfserv.maximintegrated.com/package_dwgs/21-0057.PDF
footprint MAXM-U5+2_N (SOT23, 5-Leads, Body 2.9x1.625mm, Pitch 0.95mm, IPC Medium Density)
footprint MAXM-U5+2_L (SOT23, 5-Leads, Body 2.9x1.625mm, Pitch 0.95mm, IPC High Density)
footprint MAXM-U5+2_M (SOT23, 5-Leads, Body 2.9x1.625mm, Pitch 0.95mm, IPC Low Density)
pins: 1 GND (power) "Ground", 2 GND (power) "Ground", 3 HYST (in) "Hysteresis Input. Connect to VCC for 2degreesC of hysteresis or to GND for 10degreesC hysteresis.", 4 VCC (power) "Input Supply. Bypass to ground with a 0.1uF capacitor.", 5 TOVER (out) "Push-Pull Active-High Output (Hot Threshold). TOVER goes high when the die temperature exceeds the factory-programmed hot-temperature threshold."

## MAX6502UKP075+T
designator U?
Low-Cost, 2.7 to 5.5 V, Micropower, Push / Pull Temperature Switch with Hot Trip Threshold, -55 to 125 degC, 5-Pin SOT23 (U5+2), Pb-Free, Tape and Reel; Generic Part Number: MAX6502; PartNumber: MAX6502UKP075+T; Functions: Temperature Switch/Temperature Comparator; Interface: Logic; DatasheetVersion: Rev. 6; PackageVersion: Rev. G, 04/2011; PackageReference: U5+2; PackageDescription: 5-Pin Small-Outline Transistor Package, Body 1.625 x 2.9 mm, Pitch 0.95 mm; Supplier 1: Digi-Key; Supplier Part Number 1: MAX6502UKP075+T-ND; Supplier 2: Mouser; Supplier Part Number 2: 700-MAX6502UKP075T; Packing: Tape and Reel; Mounting Technology: Surface Mount; Code_JEDEC: MO178; ComponentLink1Description: Manufacturer URL; ComponentLink1URL: http://www.maximintegrated.com/; ComponentLink2Description: Datasheet; ComponentLink2URL: http://datasheets.maximintegrated.com/en/ds/MAX6502; ComponentLink3Description: Package Specification; ComponentLink3URL: http://pdfserv.maximintegrated.com/package_dwgs/21-0057.PDF
footprint MAXM-U5+2_N (SOT23, 5-Leads, Body 2.9x1.625mm, Pitch 0.95mm, IPC Medium Density)
footprint MAXM-U5+2_L (SOT23, 5-Leads, Body 2.9x1.625mm, Pitch 0.95mm, IPC High Density)
footprint MAXM-U5+2_M (SOT23, 5-Leads, Body 2.9x1.625mm, Pitch 0.95mm, IPC Low Density)
pins: 1 GND (power) "Ground", 2 GND (power) "Ground", 3 HYST (in) "Hysteresis Input. Connect to VCC for 2degreesC of hysteresis or to GND for 10degreesC hysteresis.", 4 VCC (power) "Input Supply. Bypass to ground with a 0.1uF capacitor.", 5 TOVER (out) "Push-Pull Active-High Output (Hot Threshold). TOVER goes high when the die temperature exceeds the factory-programmed hot-temperature threshold."

## MAX6505UTN005+T
designator U?
Dual Trip Temperature Switch, -40 to 125 degC, 6-Pin SOT23 (U6SN+1), Pb-Free, Tape and Reel; Generic Part Number: MAX6505; PartNumber: MAX6505UTN005+T; Functions: Temperature Switch/Temperature Comparator; Interface: Logic; DatasheetVersion: Rev. 1; PackageVersion: Rev. N, 08/2012; PackageReference: U6SN+1; PackageDescription: 6-Pin Small-Outline Transistor Package, Body 1.625 x 2.9 mm, Pitch 0.95 mm; Supplier 1: Digi-Key; Supplier Part Number 1: MAX6505UTN005+T-ND; Supplier 2: Mouser; Supplier Part Number 2: 700-MAX6505UTN005T; Packing: Tape and Reel; Mounting Technology: Surface Mount; Code_JEDEC: MO-178; ComponentLink1Description: Manufacturer URL; ComponentLink1URL: http://www.maximintegrated.com/; ComponentLink2Description: Datasheet; ComponentLink2URL: http://datasheets.maximintegrated.com/en/ds/MAX6505; ComponentLink3Description: Package Specification; ComponentLink3URL: http://pdfserv.maximintegrated.com/package_dwgs/21-0058.PDF
footprint MAXM-U6SN+1_N (SOT23, 6-Leads, Body 2.9x1.625mm, Pitch 0.95mm, IPC Medium Density)
footprint MAXM-U6SN+1_L (SOT23, 6-Leads, Body 2.9x1.625mm, Pitch 0.95mm, IPC High Density)
footprint MAXM-U6SN+1_M (SOT23, 6-Leads, Body 2.9x1.625mm, Pitch 0.95mm, IPC Low Density)
pins: 1 ~{WARN} (oc) "Open-Drain Active-Low Warning Output. W\A\R\N\ goes low when the die temperature exceeds TWARN = TALARM - deltaTAW.", 2 GND (power) "Ground", 3 S1 (in) "Delta Temperature Select Input. Connect to VCC or GND to select the difference between TALARM and TWARN (Table 1 or see Electrical Characteristics).", 4 VCC (power) "Supply Voltage Input. Bypass VCC to GND with a 0.1uF ceramic capacitor.", 5 S0 (in) "Delta Temperature Select Input. Connect to VCC or GND to select the difference between TALARM and TWARN (Table 1 or see Electrical Characteristics).", 6 ~{ALARM} (oc) "Open-Drain Active-Low Alarm Output. A\L\A\R\M\ goes low when the die temperature exceeds the factory-set value of TALARM."

## MAX6505UTN010+T
designator U?
Dual Trip Temperature Switch, -40 to 125 degC, 6-Pin SOT23 (U6SN+1), Pb-Free, Tape and Reel; Generic Part Number: MAX6505; PartNumber: MAX6505UTN010+T; Functions: Temperature Switch/Temperature Comparator; Interface: Logic; DatasheetVersion: Rev. 1; PackageVersion: Rev. N, 08/2012; PackageReference: U6SN+1; PackageDescription: 6-Pin Small-Outline Transistor Package, Body 1.625 x 2.9 mm, Pitch 0.95 mm; Supplier 1: Digi-Key; Supplier Part Number 1: MAX6505UTN010+T-ND; Supplier 2: Mouser; Supplier Part Number 2: 700-MAX6505UTN010T; Packing: Tape and Reel; Mounting Technology: Surface Mount; Code_JEDEC: MO-178; ComponentLink1Description: Manufacturer URL; ComponentLink1URL: http://www.maximintegrated.com/; ComponentLink2Description: Datasheet; ComponentLink2URL: http://datasheets.maximintegrated.com/en/ds/MAX6505; ComponentLink3Description: Package Specification; ComponentLink3URL: http://pdfserv.maximintegrated.com/package_dwgs/21-0058.PDF
footprint MAXM-U6SN+1_N (SOT23, 6-Leads, Body 2.9x1.625mm, Pitch 0.95mm, IPC Medium Density)
footprint MAXM-U6SN+1_L (SOT23, 6-Leads, Body 2.9x1.625mm, Pitch 0.95mm, IPC High Density)
footprint MAXM-U6SN+1_M (SOT23, 6-Leads, Body 2.9x1.625mm, Pitch 0.95mm, IPC Low Density)
pins: 1 ~{WARN} (oc) "Open-Drain Active-Low Warning Output. W\A\R\N\ goes low when the die temperature exceeds TWARN = TALARM - deltaTAW.", 2 GND (power) "Ground", 3 S1 (in) "Delta Temperature Select Input. Connect to VCC or GND to select the difference between TALARM and TWARN (Table 1 or see Electrical Characteristics).", 4 VCC (power) "Supply Voltage Input. Bypass VCC to GND with a 0.1uF ceramic capacitor.", 5 S0 (in) "Delta Temperature Select Input. Connect to VCC or GND to select the difference between TALARM and TWARN (Table 1 or see Electrical Characteristics).", 6 ~{ALARM} (oc) "Open-Drain Active-Low Alarm Output. A\L\A\R\M\ goes low when the die temperature exceeds the factory-set value of TALARM."